# Altium footprint library CopperComponents.PcbLib: 25 footprints (part 1 of 2)
Each footprint in its own frame and in the unit in brackets; x right, y up, seen from the top. Pads: shape width x height; smd on the part's side, far side on the other; paste and mask are expansions set on the pad; w line width, h text height; cw(c..) or ccw(c..) is an arc to the next point about the centre after c.
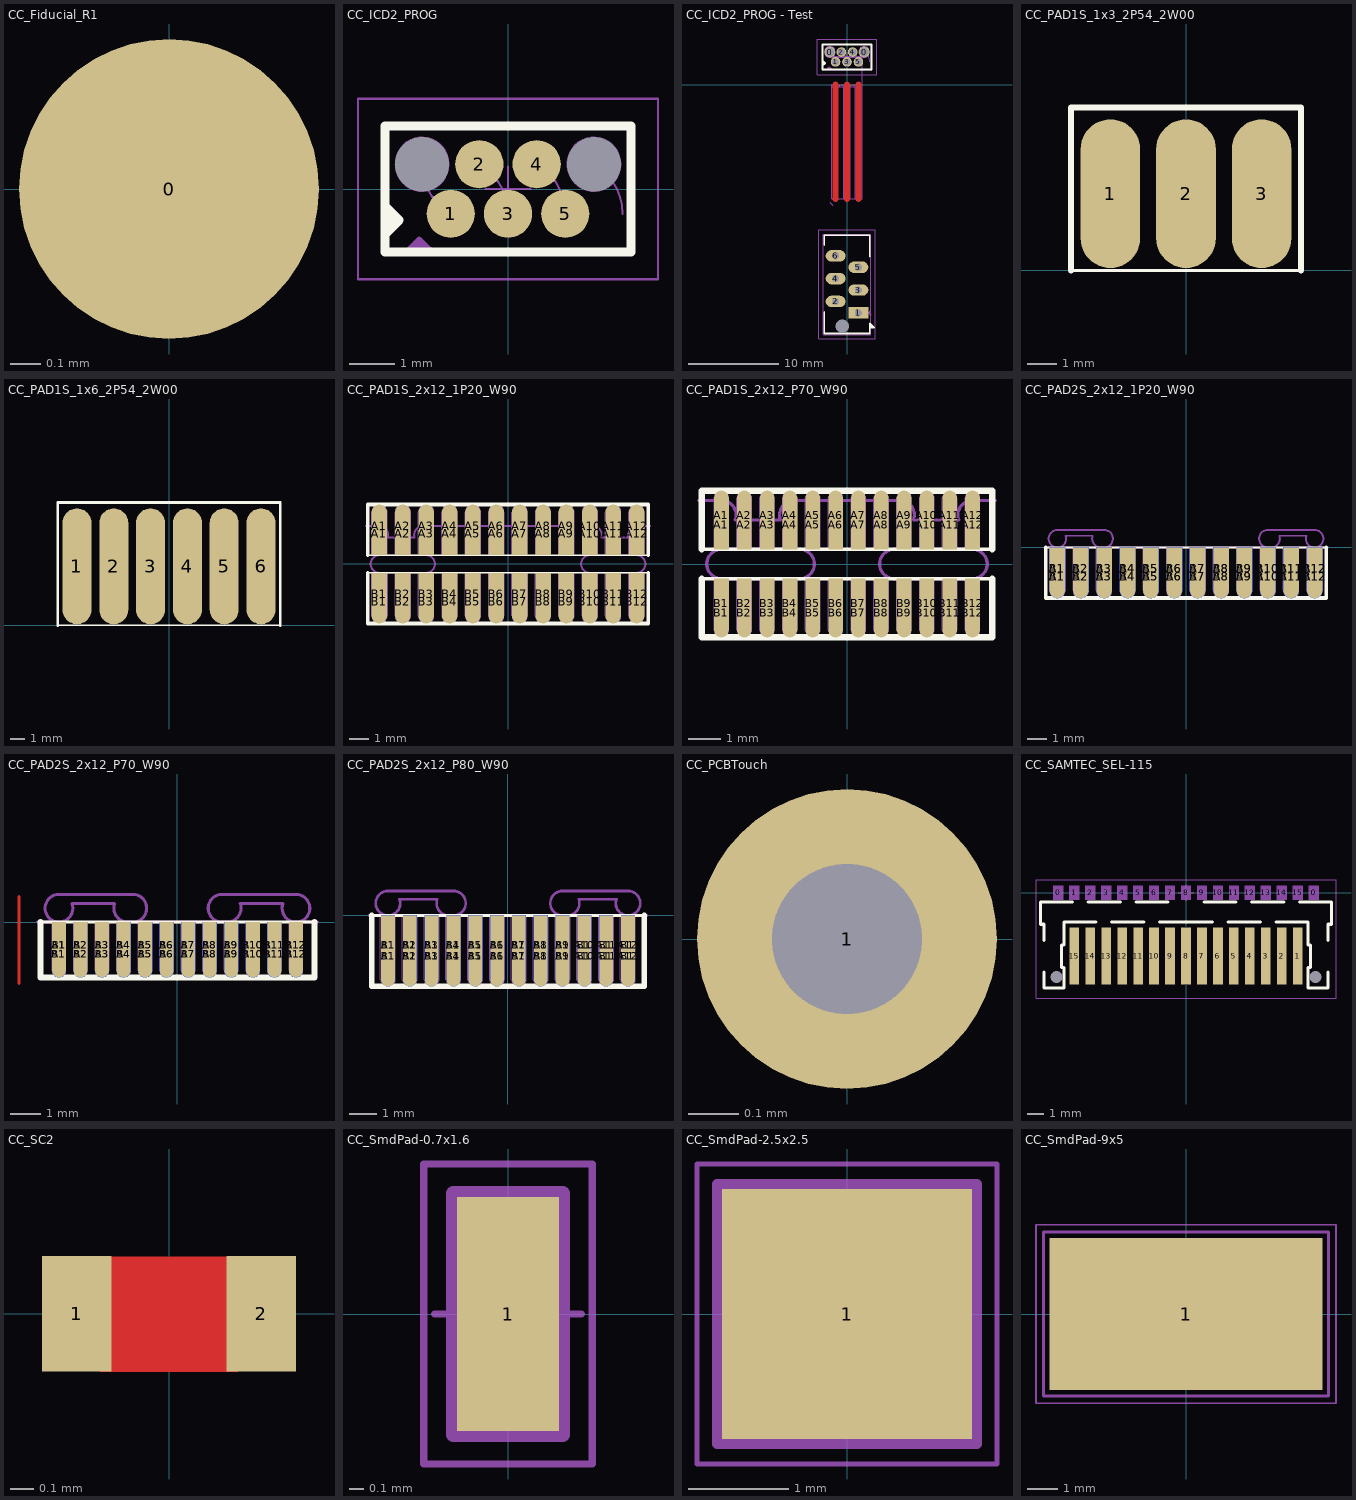
[diagram p0: the footprints below, top view; thin cyan lines are the x and y axes]

## CC_Fiducial_R1 [mm] "Fiducial Round 1mm"
pads (1):
  round 1 smd paste-1 mask+1: 0(0,0)

## CC_ICD2_PROG [mm] "ICD2 Microchip Programming Interface"
pads (7):
  round 0 hole 1.2 unplated: 0(-1.905,0.55) 0(1.905,0.55)
  round 1.07 smd: 1(-1.27,-0.55) 2(-0.635,0.55) 3(0,-0.55) 4(0.635,0.55) 5(1.27,-0.55)
Top Overlay:
  lines w0.2: -2.6,-0.755 -2.6,-0.639 ; -2.725,-1.4 2.725,-1.4 2.725,1.4 -2.725,1.4 -2.725,-1.4 ; -2.725,-1 -2.725,-0.38 -2.415,-0.69 -2.725,-1
M-CAD:
  lines w0.01: -2.505,0.55 -1.905,0.55 ; -2.496,0.446 -1.905,0.55 ; -2.496,0.654 -1.905,0.55 ; -2.469,0.345 -1.905,0.55 ; -2.469,0.755 -1.905,0.55 ; -2.425,0.25 -1.905,0.55 ; -2.425,0.85 -1.905,0.55 ; -2.365,0.164 -1.905,0.55 ; -2.365,0.936 -1.905,0.55 ; -2.291,0.09 -1.905,0.55 ; -2.291,1.01 -1.905,0.55 ; -2.205,0.03 -1.905,0.55 ; -2.205,1.07 -1.905,0.55 ; -2.11,-0.014 -1.905,0.55 ; -2.11,1.114 -1.905,0.55 ; -2.009,-0.041 -1.905,0.55 ; -2.009,1.141 -1.905,0.55 ; -1.905,-0.05 -1.905,0.55 ; -1.905,1.15 -1.905,0.55 ; -1.801,-0.041 -1.905,0.55 ; -1.801,1.141 -1.905,0.55 ; -1.7,-0.014 -1.905,0.55 ; -1.7,1.114 -1.905,0.55 ; -1.605,0.03 -1.905,0.55 ; -1.605,1.07 -1.905,0.55 ; -1.519,0.09 -1.905,0.55 ; -1.519,1.01 -1.905,0.55 ; -1.445,0.164 -1.905,0.55 ; -1.445,0.936 -1.905,0.55 ; -1.385,0.25 -1.905,0.55 ; -1.385,0.85 -1.905,0.55 ; -1.341,0.345 -1.905,0.55 ; -1.341,0.755 -1.905,0.55 ; -1.314,0.446 -1.905,0.55 ; -1.314,0.654 -1.905,0.55 ; -1.305,0.55 -1.905,0.55
  lines w0.05: -1.905,0.55 ccw(c-0.635,0.55) -1.27,-0.55 ; -0.635,0.55 cw(c-1.27,-0.55) 0,-0.55 0,0 -0.38,0 ; 0.635,0.55 cw(c0,-0.55) 1.27,-0.55 ; 1.905,0.55 cw(c1.27,-0.55) 2.54,-0.55
TopBody:
  circle w0.01: c1.905,0.55 r0.6
  circle w0.01: c-1.905,0.55 r0.6
  lines w0.1: -2.265,-1.4 -1.965,-1.1 -1.665,-1.4 ; -2.165,-1.4 -1.965,-1.2 -1.765,-1.4 ; -2.065,-1.4 -1.965,-1.3 -1.865,-1.4 ; -2.725,-1.4 -2.725,1.4 2.725,1.4 2.725,-1.4 -2.725,-1.4
  text ".Designator" at -1.2,-2.3 h0.5
TopCourtyard:
  lines w0.05: -0.5,0 0.5,0 ; 0,-0.5 0,0.5 ; -3.325,-2 -3.325,2 3.325,2 3.325,-2 -3.325,-2
3D body: height 0.5, standoff 0, extent -2.725,-1.4 2.725,1.4
3D body: height 0, standoff -2, extent 1.305,-0.05 2.505,1.15
3D body: height 0, standoff -2, extent -2.505,-0.05 -1.305,1.15

## CC_ICD2_PROG - Test [mm] "ICD2 Microchip Programming Interface"
pads (14):
  round 1.2 hole 1 unplated: 0(-1.905,3.65) 0(1.905,3.65)
  round 1.07 hole 0.8 unplated: 1(-1.27,2.55) 2(-0.635,3.65) 3(0,2.55) 4(0.635,3.65) 5(1.27,2.55)
  rect 2.21x1.27 / inner rect 1.27x1.27 / far side rect 1.27x1.27 hole 0.8: 1(1.27,-25.4)
  oval 2.21x1.27 / inner round 1.27 / far side round 1.27 hole 0.8: 2(-1.27,-24.13) 3(1.27,-22.86) 4(-1.27,-21.59) 5(1.27,-20.32) 6(-1.27,-19.05)
  round 0 hole 1.5 unplated mask+0.8: ""(-0.533,-26.899)
Top Layer:
  lines w0.7: -1.27,-12.7 -1.27,0 ; 0,-12.7 0,0 ; 1.27,-12.7 1.27,0
Top Overlay:
  lines w0.2: -2.6,2.345 -2.6,2.461 ; -2.54,-25.305 -2.54,-27.7 2.54,-27.7 2.54,-26.575 3.025,-27.06 2.544,-27.06 2.54,-27.064 ; -2.54,-17.875 -2.54,-16.75 2.54,-16.75 2.54,-19.145 ; 2.54,-27.061 2.54,-26.775 ; 2.54,-26.803 2.797,-27.06 2.825,-27.06 ; -2.725,1.7 -2.725,4.5 2.725,4.5 2.725,1.7 -2.725,1.7 ; -2.725,2.1 -2.415,2.41 -2.725,2.72 -2.725,2.1
M-CAD:
  lines w0.01: -2.505,3.65 -1.905,3.65 ; -2.496,3.546 -1.905,3.65 ; -2.496,3.754 -1.905,3.65 ; -2.469,3.445 -1.905,3.65 ; -2.469,3.855 -1.905,3.65 ; -2.425,3.35 -1.905,3.65 ; -2.425,3.95 -1.905,3.65 ; -2.365,3.264 -1.905,3.65 ; -2.365,4.036 -1.905,3.65 ; -2.291,3.19 -1.905,3.65 ; -2.291,4.11 -1.905,3.65 ; -2.205,3.13 -1.905,3.65 ; -2.205,4.17 -1.905,3.65 ; -2.11,3.086 -1.905,3.65 ; -2.11,4.214 -1.905,3.65 ; -2.009,3.059 -1.905,3.65 ; -2.009,4.241 -1.905,3.65 ; -1.905,3.05 -1.905,3.65 ; -1.905,4.25 -1.905,3.65 ; -1.801,3.059 -1.905,3.65 ; -1.801,4.241 -1.905,3.65 ; -1.7,3.086 -1.905,3.65 ; -1.7,4.214 -1.905,3.65 ; -1.605,3.13 -1.905,3.65 ; -1.605,4.17 -1.905,3.65 ; -1.519,3.19 -1.905,3.65 ; -1.519,4.11 -1.905,3.65 ; -1.445,3.264 -1.905,3.65 ; -1.445,4.036 -1.905,3.65 ; -1.385,3.35 -1.905,3.65 ; -1.385,3.95 -1.905,3.65 ; -1.341,3.445 -1.905,3.65 ; -1.341,3.855 -1.905,3.65 ; -1.314,3.546 -1.905,3.65 ; -1.314,3.754 -1.905,3.65 ; -1.305,3.65 -1.905,3.65
  lines w0.05: -1.905,3.65 ccw(c-0.635,3.65) -1.27,2.55 ; -1.7,0 1.7,0 ; -0.635,3.65 cw(c-1.27,2.55) 0,2.55 0,3.1 -0.38,3.1 ; 0.635,3.65 cw(c0,2.55) 1.27,2.55 ; 1.7,-12.7 1.7,3.1 ; 1.905,3.65 cw(c1.27,2.55) 2.54,2.55
  lines w0.1: -1.9,-13.1 -1.6,-13.4 ; -1.715,-0.2 -1.715,0 ; -0.825,-0.2 -0.825,0 ; -0.445,0 -0.445,-0.2 -0.345,-0.2 -0.345,-12.7 ; 0.345,-12.7 0.345,-0.2 0.445,-0.2 0.445,0 ; 0.825,-0.2 0.825,0 1.715,0 1.715,-0.2 ; 0.925,-12.7 0.925,-0.2 ; 1.615,-12.7 1.615,-0.2 ; 1.7,-12.7 -1.7,-12.7 -1.7,-0.2 1.7,-0.2
  lines w0.2: -1.7,3.1 1.7,3.1
TopBody:
  circle w0.01: c-1.905,3.65 r0.6
  circle w0.01: c1.905,3.65 r0.6
  lines w0.1: -2.265,1.7 -1.965,2 -1.665,1.7 ; -2.165,1.7 -1.965,1.9 -1.765,1.7 ; -2.065,1.7 -1.965,1.8 -1.865,1.7 ; 2.667,-25.7 2.367,-25.4 2.667,-25.1 ; 2.667,-25.6 2.467,-25.4 2.667,-25.2 ; 2.667,-25.5 2.567,-25.4 2.667,-25.3 ; -2.725,1.7 2.725,1.7 2.725,4.5 -2.725,4.5 -2.725,1.7 ; -2.667,-27.813 2.667,-27.813 2.667,-16.637 -2.667,-16.637 -2.667,-27.813
  text ".Designator" at 8.6,-18.6 h0.5
TopCourtyard:
  lines w0.05: -0.5,3.1 0.5,3.1 ; 0,2.6 0,3.6 ; 0.77,-25.4 1.77,-25.4 ; 1.27,-25.9 1.27,-24.9 ; -3.325,1.1 3.325,1.1 3.325,5.1 -3.325,5.1 -3.325,1.1 ; -3.167,-28.313 -3.167,-16.137 3.167,-16.137 3.167,-28.313 -3.167,-28.313
3D body: height 7.2, standoff 0, extent -2.667,-27.813 2.667,-16.637
3D body: height 0, standoff -2, extent -2.505,3.05 -1.305,4.25
3D body: height 0, standoff -2, extent 1.305,3.05 2.505,4.25
3D body: height 0.5, standoff 0, extent -2.725,1.7 2.725,4.5

## CC_PAD1S_1x3_2P54_2W00 [mm]
height 0.5
pads (3):
  oval 2x5 smd: 1(-2.55,2.58) 2(-0.01,2.58) 3(2.53,2.58)
Top Overlay:
  lines w0.1: -3.875,0 3.855,0
  lines w0.2: -3.875,0 -3.875,5.475 3.855,5.475 3.855,0
3D body: height 0.5, standoff 0, extent 1.531,0.091 3.549,5.109
3D body: height 0.5, standoff 0, extent -3.549,0.091 -1.531,5.109
3D body: height 0.5, standoff 0, extent -1.009,0.091 1.009,5.109

## CC_PAD1S_1x6_2P54_2W00 [mm]
height 0.5
pads (6):
  oval 2x8 smd: 1(-6.35,4.08) 2(-3.81,4.08) 3(-1.27,4.08) 4(1.27,4.08) 5(3.81,4.08) 6(6.35,4.08)
Top Overlay:
  lines w0.1: -7.675,0 7.675,0
  lines w0.2: -7.675,0 -7.675,8.475 7.675,8.475 7.675,0

## CC_PAD1S_2x12_1P20_W90 [mm]
height 0.5
pads (48):
  rect 0.8x2.2 smd paste-5: A1(-6.6,1.55) A2(-5.4,1.55) A3(-4.2,1.55) A4(-3,1.55) A5(-1.8,1.55) A6(-0.6,1.55) A7(0.6,1.55) A8(1.8,1.55) A9(3,1.55) A10(4.2,1.55) A11(5.4,1.55) A12(6.6,1.55) B1(-6.6,-1.55) B2(-5.4,-1.55) B3(-4.2,-1.55) B4(-3,-1.55) B5(-1.8,-1.55) B6(-0.6,-1.55) B7(0.6,-1.55) B8(1.8,-1.55) B9(3,-1.55) B10(4.2,-1.55) B11(5.4,-1.55) B12(6.6,-1.55)
  oval 0.8x2.2 smd paste-5: A1(-6.6,1.95) A2(-5.4,1.95) A3(-4.2,1.95) A4(-3,1.95) A5(-1.8,1.95) A6(-0.6,1.95) A7(0.6,1.95) A8(1.8,1.95) A9(3,1.95) A10(4.2,1.95) A11(5.4,1.95) A12(6.6,1.95) B1(-6.6,-1.95) B2(-5.4,-1.95) B3(-4.2,-1.95) B4(-3,-1.95) B5(-1.8,-1.95) B6(-0.6,-1.95) B7(0.6,-1.95) B8(1.8,-1.95) B9(3,-1.95) B10(4.2,-1.95) B11(5.4,-1.95) B12(6.6,-1.95)
Top Overlay:
  lines w0.1: -7.2,-0.45 7.2,-0.45 ; -7.2,0.45 7.2,0.45
  lines w0.2: -7.2,-3.05 7.2,-3.05 ; -7.2,-3.009 -7.2,-0.45 ; -7.2,0.45 -7.2,3.009 ; -7.2,3.05 7.2,3.05 ; 7.2,-3.009 7.2,-0.45 ; 7.2,0.45 7.2,3.009
M-CAD:
  lines w0.1: -7.3,1.95 -6.6,1.95 cw(c-6.6,1.5) -6.176,1.35 -4.791,1.35 cw(c-4.367,1.5) -4.367,1.95 3.167,1.95 ; 4.367,1.95 cw(c4.367,1.5) 4.791,1.35 6.176,1.35 cw(c6.6,1.5) 6.6,1.95 ; 6.15,1.45 6.15,1.5 cw(c6.6,1.5) 6.6,1.95 ; 6.6,1.95 7.3,1.95 6.6,1.95 ; -6.6,-0.45 cw(c-6.6,0) -6.6,0.45 -4.2,0.45 cw(c-4.2,0) -4.2,-0.45 -6.6,-0.45 ; 4.2,-0.45 cw(c4.2,0) 4.2,0.45 6.6,0.45 cw(c6.6,0) 6.6,-0.45 4.2,-0.45
TopBody:
  lines w0.01: -7,-2.65 ccw(c-6.6,-2.65) -6.2,-2.65 -6.2,-0.45 -7,-0.45 ; -7,-2.65 -7,-0.45 ; -7,-2.65 -7,-0.45 ; -7,0.45 -7,2.65 ; -7,0.45 -6.2,0.45 -6.2,2.65 ccw(c-6.6,2.65) -7,2.65 ; -7,0.45 -7,2.65 ; -5.8,-2.65 ccw(c-5.4,-2.65) -5,-2.65 -5,-0.45 -5.8,-0.45 -5.8,-2.65 ; -5.8,0.45 -5,0.45 -5,2.65 ccw(c-5.4,2.65) -5.8,2.65 -5.8,0.45 ; -4.6,-2.65 ccw(c-4.2,-2.65) -3.8,-2.65 -3.8,-0.45 -4.6,-0.45 -4.6,-2.65 ; -4.6,0.45 -3.8,0.45 -3.8,2.65 ccw(c-4.2,2.65) -4.6,2.65 -4.6,0.45 ; -3.4,-2.65 ccw(c-3,-2.65) -2.6,-2.65 -2.6,-0.45 -3.4,-0.45 -3.4,-2.65 ; -3.4,0.45 -2.6,0.45 -2.6,2.65 ccw(c-3,2.65) -3.4,2.65 -3.4,0.45 ; -2.2,-2.65 ccw(c-1.8,-2.65) -1.4,-2.65 -1.4,-0.45 -2.2,-0.45 -2.2,-2.65 ; -2.2,0.45 -1.4,0.45 -1.4,2.65 ccw(c-1.8,2.65) -2.2,2.65 -2.2,0.45 ; -1,-2.65 ccw(c-0.6,-2.65) -0.2,-2.65 -0.2,-0.45 -1,-0.45 -1,-2.65 ; -1,0.45 -0.2,0.45 -0.2,2.65 ccw(c-0.6,2.65) -1,2.65 -1,0.45 ; 0.2,-2.65 ccw(c0.6,-2.65) 1,-2.65 1,-0.45 0.2,-0.45 0.2,-2.65 ; 0.2,0.45 1,0.45 1,2.65 ccw(c0.6,2.65) 0.2,2.65 0.2,0.45 ; 1.4,-2.65 ccw(c1.8,-2.65) 2.2,-2.65 2.2,-0.45 1.4,-0.45 1.4,-2.65 ; 1.4,0.45 2.2,0.45 2.2,2.65 ccw(c1.8,2.65) 1.4,2.65 1.4,0.45 ; 2.6,-2.65 ccw(c3,-2.65) 3.4,-2.65 3.4,-0.45 2.6,-0.45 2.6,-2.65 ; 2.6,0.45 2.6,2.65 cw(c3,2.65) 3.4,2.65 3.4,0.45 2.6,0.45 ; 3.8,-2.65 ccw(c4.2,-2.65) 4.6,-2.65 4.6,-0.45 3.8,-0.45 3.8,-2.65 ; 3.8,0.45 3.8,2.65 cw(c4.2,2.65) 4.6,2.65 4.6,0.45 3.8,0.45 ; 5,-2.65 ccw(c5.4,-2.65) 5.8,-2.65 5.8,-0.45 5,-0.45 5,-2.65 ; 5,0.45 5.8,0.45 5.8,2.65 ccw(c5.4,2.65) 5,2.65 5,0.45 ; 6.2,-2.65 ccw(c6.6,-2.65) 7,-2.65 7,-0.45 6.2,-0.45 6.2,-2.65 ; 6.2,0.45 6.2,2.65 cw(c6.6,2.65) 7,2.65 7,0.45 6.2,0.45
3D body: height 0.5, standoff 0, extent -5.808,0.449 -4.992,3.058
3D body: height 0.5, standoff 0, extent -7.008,0.449 -6.192,3.058
3D body: height 0.5, standoff 0, extent -4.607,0.451 -3.793,3.057
3D body: height 0.5, standoff 0, extent -3.408,0.449 -2.592,3.058
3D body: height 0.5, standoff 0, extent -2.208,0.449 -1.392,3.058
3D body: height 0.5, standoff 0, extent -1.008,0.449 -0.192,3.058
3D body: height 0.5, standoff 0, extent 0.193,0.451 1.007,3.057
3D body: height 0.5, standoff 0, extent 1.392,0.449 2.208,3.058
3D body: height 0.5, standoff 0, extent 2.593,0.451 3.407,3.057
3D body: height 0.5, standoff 0, extent 2.593,-3.057 3.407,-0.451
3D body: height 0.5, standoff 0, extent 1.392,-3.058 2.208,-0.449
3D body: height 0.5, standoff 0, extent 0.193,-3.057 1.007,-0.451
3D body: height 0.5, standoff 0, extent -1.008,-3.058 -0.192,-0.449
3D body: height 0.5, standoff 0, extent -2.208,-3.058 -1.392,-0.449
3D body: height 0.5, standoff 0, extent -3.408,-3.058 -2.592,-0.449
3D body: height 0.5, standoff 0, extent -4.607,-3.057 -3.793,-0.451
3D body: height 0.5, standoff 0, extent -7.008,-3.058 -6.192,-0.449
3D body: height 0.5, standoff 0, extent -5.808,-3.058 -4.992,-0.449
3D body: height 0.5, standoff 0, extent 3.792,-3.058 4.608,-0.449
3D body: height 0.5, standoff 0, extent 4.993,-3.057 5.807,-0.451
3D body: height 0.5, standoff 0, extent 4.993,0.451 5.807,3.057
3D body: height 0.5, standoff 0, extent 3.792,0.449 4.608,3.058
3D body: height 0.5, standoff 0, extent 6.193,0.451 7.007,3.057
3D body: height 0.5, standoff 0, extent 6.193,-3.057 7.007,-0.451

## CC_PAD1S_2x12_P70_W90 [mm]
height 0.5
pads (48):
  rect 0.45x1.5 smd paste-5: A1(-3.85,1.2) A2(-3.15,1.2) A3(-2.45,1.2) A4(-1.75,1.2) A5(-1.05,1.2) A6(-0.35,1.2) A7(0.35,1.2) A8(1.05,1.2) A9(1.75,1.2) A10(2.45,1.2) A11(3.15,1.2) A12(3.85,1.2) B1(-3.85,-1.2) B2(-3.15,-1.2) B3(-2.45,-1.2) B4(-1.75,-1.2) B5(-1.05,-1.2) B6(-0.35,-1.2) B7(0.35,-1.2) B8(1.05,-1.2) B9(1.75,-1.2) B10(2.45,-1.2) B11(3.15,-1.2) B12(3.85,-1.2)
  oval 0.45x1.5 smd paste-5: A1(-3.85,1.5) A2(-3.15,1.5) A3(-2.45,1.5) A4(-1.75,1.5) A5(-1.05,1.5) A6(-0.35,1.5) A7(0.35,1.5) A8(1.05,1.5) A9(1.75,1.5) A10(2.45,1.5) A11(3.15,1.5) A12(3.85,1.5) B1(-3.85,-1.5) B2(-3.15,-1.5) B3(-2.45,-1.5) B4(-1.75,-1.5) B5(-1.05,-1.5) B6(-0.35,-1.5) B7(0.35,-1.5) B8(1.05,-1.5) B9(1.75,-1.5) B10(2.45,-1.5) B11(3.15,-1.5) B12(3.85,-1.5)
Top Overlay:
  lines w0.1: -4.45,-0.45 4.45,-0.45 ; -4.45,0.45 4.45,0.45
  lines w0.2: -4.45,-0.45 -4.45,-2.25 4.45,-2.25 4.45,-0.45 ; -4.45,0.45 -4.45,2.25 4.45,2.25 4.45,0.45
M-CAD:
  lines w0.1: -4.55,1.95 -3.85,1.95 cw(c-3.85,1.5) -3.426,1.35 -2.041,1.35 cw(c-1.617,1.5) -1.617,1.95 1.617,1.95 cw(c1.617,1.5) 2.041,1.35 3.426,1.35 cw(c3.85,1.5) 3.85,1.95 4.55,1.95 ; -3.85,-0.45 cw(c-3.85,0) -3.85,0.45 -1.45,0.45 cw(c-1.45,0) -1.45,-0.45 -3.85,-0.45 ; 1.45,-0.45 cw(c1.45,0) 1.45,0.45 3.85,0.45 cw(c3.85,0) 3.85,-0.45 1.45,-0.45
TopBody:
  lines w0.01: -4.075,-2.025 ccw(c-3.85,-2.025) -3.85,-2.25 ccw(c-3.85,-2.025) -3.625,-2.025 -3.625,-0.45 -4.075,-0.45 -4.075,-2.025 ; -4.075,0.45 -4.075,2.025 cw(c-3.85,2.025) -3.85,2.25 cw(c-3.85,2.025) -3.625,2.025 -3.625,0.45 -4.075,0.45 ; -3.375,-2.025 ccw(c-3.15,-2.025) -3.15,-2.25 ccw(c-3.15,-2.025) -2.925,-2.025 -2.925,-0.45 -3.375,-0.45 -3.375,-2.025 ; -3.375,0.45 -3.375,2.025 cw(c-3.15,2.025) -3.15,2.25 cw(c-3.15,2.025) -2.925,2.025 -2.925,0.45 -3.375,0.45 ; -2.675,-2.025 ccw(c-2.45,-2.025) -2.45,-2.25 ccw(c-2.45,-2.025) -2.225,-2.025 -2.225,-0.45 -2.675,-0.45 -2.675,-2.025 ; -2.675,0.45 -2.675,2.025 cw(c-2.45,2.025) -2.45,2.25 cw(c-2.45,2.025) -2.225,2.025 -2.225,0.45 -2.675,0.45 ; -1.975,-2.025 ccw(c-1.75,-2.025) -1.75,-2.25 ccw(c-1.75,-2.025) -1.525,-2.025 -1.525,-0.45 -1.975,-0.45 -1.975,-2.025 ; -1.975,0.45 -1.975,2.025 cw(c-1.75,2.025) -1.75,2.25 cw(c-1.75,2.025) -1.525,2.025 -1.525,0.45 -1.975,0.45 ; -1.275,-2.025 ccw(c-1.05,-2.025) -1.05,-2.25 ccw(c-1.05,-2.025) -0.825,-2.025 -0.825,-0.45 -1.275,-0.45 -1.275,-2.025 ; -1.275,0.45 -1.275,2.025 cw(c-1.05,2.025) -1.05,2.25 cw(c-1.05,2.025) -0.825,2.025 -0.825,0.45 -1.275,0.45 ; -0.575,-2.025 ccw(c-0.35,-2.025) -0.35,-2.25 ccw(c-0.35,-2.025) -0.125,-2.025 -0.125,-0.45 -0.575,-0.45 -0.575,-2.025 ; -0.575,0.45 -0.575,2.025 cw(c-0.35,2.025) -0.35,2.25 cw(c-0.35,2.025) -0.125,2.025 -0.125,0.45 -0.575,0.45 ; 0.125,-2.025 ccw(c0.35,-2.025) 0.35,-2.25 ccw(c0.35,-2.025) 0.575,-2.025 0.575,-0.45 0.125,-0.45 0.125,-2.025 ; 0.125,0.45 0.125,2.025 cw(c0.35,2.025) 0.35,2.25 cw(c0.35,2.025) 0.575,2.025 0.575,0.45 0.125,0.45 ; 0.825,-2.025 ccw(c1.05,-2.025) 1.05,-2.25 ccw(c1.05,-2.025) 1.275,-2.025 1.275,-0.45 0.825,-0.45 0.825,-2.025 ; 0.825,0.45 0.825,2.025 cw(c1.05,2.025) 1.05,2.25 cw(c1.05,2.025) 1.275,2.025 1.275,0.45 0.825,0.45 ; 1.525,-2.025 ccw(c1.75,-2.025) 1.75,-2.25 ccw(c1.75,-2.025) 1.975,-2.025 1.975,-0.45 1.525,-0.45 1.525,-2.025 ; 1.525,0.45 1.975,0.45 1.975,2.025 ccw(c1.75,2.025) 1.75,2.25 ccw(c1.75,2.025) 1.525,2.025 1.525,0.45 ; 2.225,-2.025 ccw(c2.45,-2.025) 2.45,-2.25 ccw(c2.45,-2.025) 2.675,-2.025 2.675,-0.45 2.225,-0.45 2.225,-2.025 ; 2.225,0.45 2.675,0.45 2.675,2.025 ccw(c2.45,2.025) 2.45,2.25 ccw(c2.45,2.025) 2.225,2.025 2.225,0.45 ; 2.925,-2.025 ccw(c3.15,-2.025) 3.15,-2.25 ccw(c3.15,-2.025) 3.375,-2.025 3.375,-0.45 2.925,-0.45 2.925,-2.025 ; 2.925,0.45 3.375,0.45 3.375,2.025 ccw(c3.15,2.025) 3.15,2.25 ccw(c3.15,2.025) 2.925,2.025 2.925,0.45 ; 3.625,-2.025 ccw(c3.85,-2.025) 3.85,-2.25 ccw(c3.85,-2.025) 4.075,-2.025 4.075,-0.45 3.625,-0.45 3.625,-2.025 ; 3.625,0.45 4.075,0.45 4.075,2.025 ccw(c3.85,2.025) 3.85,2.25 ccw(c3.85,2.025) 3.625,2.025 3.625,0.45
3D body: height 0.5, standoff 0, extent 3.62,0.449 4.08,2.255
3D body: height 0.5, standoff 0, extent 2.92,0.449 3.38,2.255
3D body: height 0.5, standoff 0, extent 2.22,0.449 2.68,2.255
3D body: height 0.5, standoff 0, extent 1.52,0.449 1.98,2.255
3D body: height 0.5, standoff 0, extent 0.82,0.449 1.28,2.255
3D body: height 0.5, standoff 0, extent 0.12,0.449 0.58,2.255
3D body: height 0.5, standoff 0, extent 3.62,-2.255 4.08,-0.449
3D body: height 0.5, standoff 0, extent 2.921,-2.254 3.379,-0.451
3D body: height 0.5, standoff 0, extent 2.22,-2.255 2.68,-0.449
3D body: height 0.5, standoff 0, extent 1.52,-2.255 1.98,-0.449
3D body: height 0.5, standoff 0, extent 0.82,-2.255 1.28,-0.449
3D body: height 0.5, standoff 0, extent 0.12,-2.255 0.58,-0.449
3D body: height 0.5, standoff 0, extent -0.58,0.449 -0.12,2.255
3D body: height 0.5, standoff 0, extent -1.28,0.449 -0.82,2.255
3D body: height 0.5, standoff 0, extent -1.98,0.449 -1.52,2.255
3D body: height 0.5, standoff 0, extent -2.68,0.449 -2.22,2.255
3D body: height 0.5, standoff 0, extent -3.38,0.449 -2.92,2.255
3D body: height 0.5, standoff 0, extent -4.08,0.449 -3.62,2.255
3D body: height 0.5, standoff 0, extent -0.58,-2.255 -0.12,-0.449
3D body: height 0.5, standoff 0, extent -1.279,-2.254 -0.821,-0.451
3D body: height 0.5, standoff 0, extent -1.98,-2.255 -1.52,-0.449
3D body: height 0.5, standoff 0, extent -2.68,-2.255 -2.22,-0.449
3D body: height 0.5, standoff 0, extent -3.38,-2.255 -2.92,-0.449
3D body: height 0.5, standoff 0, extent -4.08,-2.255 -3.62,-0.449

## CC_PAD2S_2x12_1P20_W90 [mm]
height 0.5
pads (48):
  oval 0.8x2.2 smd paste-5: A1(-6.6,-1.5) A2(-5.4,-1.5) A3(-4.2,-1.5) A4(-3,-1.5) A5(-1.8,-1.5) A6(-0.6,-1.5) A7(0.6,-1.5) A8(1.8,-1.5) A9(3,-1.5) A10(4.2,-1.5) A11(5.4,-1.5) A12(6.6,-1.5)
  rect 0.8x2.2 smd paste-5: A1(-6.6,-1.1) A2(-5.4,-1.1) A3(-4.2,-1.1) A4(-3,-1.1) A5(-1.8,-1.1) A6(-0.6,-1.1) A7(0.6,-1.1) A8(1.8,-1.1) A9(3,-1.1) A10(4.2,-1.1) A11(5.4,-1.1) A12(6.6,-1.1)
  oval 0.8x2.2 smd far side paste-5: B1(-6.6,-1.5) B2(-5.4,-1.5) B3(-4.2,-1.5) B4(-3,-1.5) B5(-1.8,-1.5) B6(-0.6,-1.5) B7(0.6,-1.5) B8(1.8,-1.5) B9(3,-1.5) B10(4.2,-1.5) B11(5.4,-1.5) B12(6.6,-1.5)
  rect 0.8x2.2 smd far side paste-5: B1(-6.6,-1.1) B2(-5.4,-1.1) B3(-4.2,-1.1) B4(-3,-1.1) B5(-1.8,-1.1) B6(-0.6,-1.1) B7(0.6,-1.1) B8(1.8,-1.1) B9(3,-1.1) B10(4.2,-1.1) B11(5.4,-1.1) B12(6.6,-1.1)
Top Overlay:
  lines w0.1: -7.2,0 7.2,0
  lines w0.2: -7.2,-2.6 7.2,-2.6 ; -7.2,-2.559 -7.2,0 ; 7.2,-2.559 7.2,0
Bottom Overlay:
  lines w0.1: -7.2,0 7.2,0
  lines w0.2: -7.2,-2.6 7.2,-2.6 ; -7.2,-2.559 -7.2,0 ; 7.2,-2.559 7.2,0
M-CAD:
  lines w0.1: -7.3,0 -6.6,0 ; 6.15,0.5 6.15,0.45 ccw(c6.6,0.45) 6.6,0 ; -6.6,0 cw(c-6.6,0.45) -6.6,0.9 -4.2,0.9 cw(c-4.2,0.45) -4.2,0 -6.6,0 ; -6.6,0 ccw(c-6.6,0.45) -6.176,0.6 -4.791,0.6 ccw(c-4.367,0.45) -4.367,0 4.367,0 ccw(c4.367,0.45) 4.791,0.6 6.176,0.6 ccw(c6.6,0.45) 6.6,0 ; 6.6,0 ccw(c6.6,0.45) 6.6,0.9 4.2,0.9 ccw(c4.2,0.45) 4.2,0 6.6,0 ; 6.6,0 7.3,0 6.6,0
TopBody:
  lines w0.01: -7,-2.2 ccw(c-6.6,-2.2) -6.2,-2.2 -6.2,0 -7,0 ; -7,-2.2 -7,0 ; -7,-2.2 -7,0 ; -5.8,-2.2 ccw(c-5.4,-2.2) -5,-2.2 -5,0 -5.8,0 -5.8,-2.2 ; -4.6,-2.2 ccw(c-4.2,-2.2) -3.8,-2.2 -3.8,0 -4.6,0 -4.6,-2.2 ; -3.4,-2.2 ccw(c-3,-2.2) -2.6,-2.2 -2.6,0 -3.4,0 -3.4,-2.2 ; -2.2,-2.2 ccw(c-1.8,-2.2) -1.4,-2.2 -1.4,0 -2.2,0 -2.2,-2.2 ; -1,-2.2 ccw(c-0.6,-2.2) -0.2,-2.2 -0.2,0 -1,0 -1,-2.2 ; 0.2,-2.2 ccw(c0.6,-2.2) 1,-2.2 1,0 0.2,0 0.2,-2.2 ; 1.4,-2.2 ccw(c1.8,-2.2) 2.2,-2.2 2.2,0 1.4,0 1.4,-2.2 ; 2.6,-2.2 ccw(c3,-2.2) 3.4,-2.2 3.4,0 2.6,0 2.6,-2.2 ; 3.8,-2.2 ccw(c4.2,-2.2) 4.6,-2.2 4.6,0 3.8,0 3.8,-2.2 ; 5,-2.2 ccw(c5.4,-2.2) 5.8,-2.2 5.8,0 5,0 5,-2.2 ; 6.2,-2.2 ccw(c6.6,-2.2) 7,-2.2 7,0 6.2,0 6.2,-2.2
BotBody:
  lines w0.01: -7,-2.2 ccw(c-6.6,-2.2) -6.2,-2.2 -6.2,0 -7,0 ; -7,-2.2 -7,0 ; -7,-2.2 -7,0 ; -5.8,-2.2 ccw(c-5.4,-2.2) -5,-2.2 -5,0 -5.8,0 -5.8,-2.2 ; -4.6,-2.2 ccw(c-4.2,-2.2) -3.8,-2.2 -3.8,0 -4.6,0 -4.6,-2.2 ; -3.4,-2.2 ccw(c-3,-2.2) -2.6,-2.2 -2.6,0 -3.4,0 -3.4,-2.2 ; -2.2,-2.2 ccw(c-1.8,-2.2) -1.4,-2.2 -1.4,0 -2.2,0 -2.2,-2.2 ; -1,-2.2 ccw(c-0.6,-2.2) -0.2,-2.2 -0.2,0 -1,0 -1,-2.2 ; 0.2,-2.2 ccw(c0.6,-2.2) 1,-2.2 1,0 0.2,0 0.2,-2.2 ; 1.4,-2.2 ccw(c1.8,-2.2) 2.2,-2.2 2.2,0 1.4,0 1.4,-2.2 ; 2.6,-2.2 ccw(c3,-2.2) 3.4,-2.2 3.4,0 2.6,0 2.6,-2.2 ; 3.8,-2.2 ccw(c4.2,-2.2) 4.6,-2.2 4.6,0 3.8,0 3.8,-2.2 ; 5,-2.2 ccw(c5.4,-2.2) 5.8,-2.2 5.8,0 5,0 5,-2.2 ; 6.2,-2.2 ccw(c6.6,-2.2) 7,-2.2 7,0 6.2,0 6.2,-2.2
3D body: height 0.5, standoff 0, extent 6.193,-2.607 7.007,-0.001
3D body: height 0.5, standoff 0, extent 4.993,-2.607 5.807,-0.001
3D body: height 0.5, standoff 0, extent 3.792,-2.608 4.608,0.001
3D body: height 0.5, standoff 0, extent -5.808,-2.608 -4.992,0.001
3D body: height 0.5, standoff 0, extent -7.008,-2.608 -6.192,0.001
3D body: height 0.5, standoff 0, extent -4.607,-2.607 -3.793,-0.001
3D body: height 0.5, standoff 0, extent -3.408,-2.608 -2.592,0.001
3D body: height 0.5, standoff 0, extent -2.208,-2.608 -1.392,0.001
3D body: height 0.5, standoff 0, extent -1.008,-2.608 -0.192,0.001
3D body: height 0.5, standoff 0, extent 0.193,-2.607 1.007,-0.001
3D body: height 0.5, standoff 0, extent 1.392,-2.608 2.208,0.001
3D body: height 0.5, standoff 0, extent 2.593,-2.607 3.407,-0.001
3D body: height 0.5, standoff 0, extent 6.193,-2.607 7.007,-0.001
3D body: height 0.5, standoff 0, extent 3.792,-2.608 4.608,0.001
3D body: height 0.5, standoff 0, extent 4.993,-2.607 5.807,-0.001
3D body: height 0.5, standoff 0, extent 2.593,-2.607 3.407,-0.001
3D body: height 0.5, standoff 0, extent 1.392,-2.608 2.208,0.001
3D body: height 0.5, standoff 0, extent 0.193,-2.607 1.007,-0.001
3D body: height 0.5, standoff 0, extent -1.008,-2.608 -0.192,0.001
3D body: height 0.5, standoff 0, extent -2.208,-2.608 -1.392,0.001
3D body: height 0.5, standoff 0, extent -3.408,-2.608 -2.592,0.001
3D body: height 0.5, standoff 0, extent -4.607,-2.607 -3.793,-0.001
3D body: height 0.5, standoff 0, extent -7.008,-2.608 -6.192,0.001
3D body: height 0.5, standoff 0, extent -5.808,-2.608 -4.992,0.001

## CC_PAD2S_2x12_P70_W90 [mm]
height 0.5
pads (48):
  oval 0.45x1.5 smd paste-5: A1(-3.85,-1.05) A2(-3.15,-1.05) A3(-2.45,-1.05) A4(-1.75,-1.05) A5(-1.05,-1.05) A6(-0.35,-1.05) A7(0.35,-1.05) A8(1.05,-1.05) A9(1.75,-1.05) A10(2.45,-1.05) A11(3.15,-1.05) A12(3.85,-1.05)
  rect 0.45x1.5 smd paste-5: A1(-3.85,-0.75) A2(-3.15,-0.75) A3(-2.45,-0.75) A4(-1.75,-0.75) A5(-1.05,-0.75) A6(-0.35,-0.75) A7(0.35,-0.75) A8(1.05,-0.75) A9(1.75,-0.75) A10(2.45,-0.75) A11(3.15,-0.75) A12(3.85,-0.75)
  oval 0.45x1.5 smd far side paste-5: B1(-3.85,-1.05) B2(-3.15,-1.05) B3(-2.45,-1.05) B4(-1.75,-1.05) B5(-1.05,-1.05) B6(-0.35,-1.05) B7(0.35,-1.05) B8(1.05,-1.05) B9(1.75,-1.05) B10(2.45,-1.05) B11(3.15,-1.05) B12(3.85,-1.05)
  rect 0.45x1.5 smd far side paste-5: B1(-3.85,-0.75) B2(-3.15,-0.75) B3(-2.45,-0.75) B4(-1.75,-0.75) B5(-1.05,-0.75) B6(-0.35,-0.75) B7(0.35,-0.75) B8(1.05,-0.75) B9(1.75,-0.75) B10(2.45,-0.75) B11(3.15,-0.75) B12(3.85,-0.75)
Top Layer:
  lines w0.1: -5.15,-2 -5.15,0.825
Top Overlay:
  lines w0.1: -4.45,0 4.45,0
  lines w0.2: -4.45,0 -4.45,-1.8 4.45,-1.8 4.45,0
Bottom Overlay:
  lines w0.1: -4.45,0 4.45,0
  lines w0.2: -4.45,0 -4.45,-1.8 4.45,-1.8 4.45,0
M-CAD:
  lines w0.1: -4.55,0 -3.85,0 ; -1.45,0 ccw(c-1.45,0.45) -1.45,0.9 -3.85,0.9 ccw(c-3.85,0.45) -3.85,0 ; 1.45,0 cw(c1.45,0.45) 1.45,0.9 3.85,0.9 cw(c3.85,0.45) 3.85,0 ; 4.55,0 3.85,0 ; -3.85,0 ccw(c-3.85,0.45) -3.426,0.6 -2.041,0.6 ccw(c-1.617,0.45) -1.617,0 1.617,0 ccw(c1.617,0.45) 2.041,0.6 3.426,0.6 ccw(c3.85,0.45) 3.85,0
TopBody:
  lines w0.01: -1.274,0 -1.274,-1.575 ccw(c-1.049,-1.575) -1.049,-1.8 ccw(c-1.049,-1.575) -0.824,-1.575 -0.824,0 ; -1.274,0.001 -0.824,0.001 ; 1.528,0.002 1.528,-1.573 ccw(c1.753,-1.573) 1.753,-1.798 ccw(c1.753,-1.573) 1.978,-1.573 1.978,0.002 ; 1.528,0.002 1.978,0.002 ; 2.228,-1.573 2.228,0.002 2.678,0.003 2.678,-1.573 cw(c2.453,-1.573) 2.453,-1.798 cw(c2.453,-1.573) 2.228,-1.573 ; -4.074,-1.576 ccw(c-3.849,-1.576) -3.849,-1.801 ccw(c-3.849,-1.576) -3.624,-1.576 -3.624,-0.001 -4.074,0 -4.074,-1.576 ; -3.374,-1.576 ccw(c-3.149,-1.576) -3.149,-1.801 ccw(c-3.149,-1.576) -2.924,-1.576 -2.924,-0.001 -3.374,0 -3.374,-1.576 ; -2.674,-1.575 ccw(c-2.449,-1.575) -2.449,-1.8 ccw(c-2.449,-1.575) -2.224,-1.575 -2.224,0 -2.674,0 -2.674,-1.575 ; -1.974,-1.575 ccw(c-1.749,-1.575) -1.749,-1.8 ccw(c-1.749,-1.575) -1.524,-1.575 -1.524,0 -1.974,0 -1.974,-1.575 ; -0.573,-1.574 ccw(c-0.348,-1.574) -0.348,-1.799 ccw(c-0.348,-1.574) -0.123,-1.574 -0.123,0.001 -0.573,0.001 -0.573,-1.574 ; 0.127,-1.574 ccw(c0.352,-1.574) 0.352,-1.799 ccw(c0.352,-1.574) 0.577,-1.574 0.577,0.001 0.127,0.002 0.127,-1.574 ; 0.828,-1.574 ccw(c1.053,-1.574) 1.053,-1.799 ccw(c1.053,-1.574) 1.278,-1.574 1.278,0.001 0.828,0.002 0.828,-1.574 ; 2.929,-1.573 ccw(c3.154,-1.573) 3.154,-1.798 ccw(c3.154,-1.573) 3.379,-1.573 3.379,0.002 2.929,0.003 2.929,-1.573 ; 3.629,-1.573 ccw(c3.854,-1.573) 3.854,-1.798 ccw(c3.854,-1.573) 4.079,-1.573 4.079,0.002 3.629,0.003 3.629,-1.573
BotBody:
  lines w0.01: -1.274,0 -1.274,-1.575 ccw(c-1.049,-1.575) -1.049,-1.8 ccw(c-1.049,-1.575) -0.824,-1.575 -0.824,0 ; -1.274,0.001 -0.824,0.001 ; 1.527,0.002 1.527,-1.573 ccw(c1.752,-1.573) 1.752,-1.798 ccw(c1.752,-1.573) 1.977,-1.573 1.977,0.002 ; 1.527,0.002 1.977,0.002 ; 2.228,-1.573 2.228,0.002 2.678,0.003 2.678,-1.573 cw(c2.453,-1.573) 2.453,-1.798 cw(c2.453,-1.573) 2.228,-1.573 ; -4.075,-1.576 ccw(c-3.85,-1.576) -3.85,-1.801 ccw(c-3.85,-1.576) -3.625,-1.576 -3.625,-0.001 -4.075,0 -4.075,-1.576 ; -3.375,-1.576 ccw(c-3.15,-1.576) -3.15,-1.801 ccw(c-3.15,-1.576) -2.925,-1.576 -2.925,-0.001 -3.375,0 -3.375,-1.576 ; -2.675,-1.575 ccw(c-2.45,-1.575) -2.45,-1.8 ccw(c-2.45,-1.575) -2.225,-1.575 -2.225,0 -2.675,0 -2.675,-1.575 ; -1.974,-1.575 ccw(c-1.749,-1.575) -1.749,-1.8 ccw(c-1.749,-1.575) -1.524,-1.575 -1.524,0 -1.974,0 -1.974,-1.575 ; -0.574,-1.574 ccw(c-0.349,-1.574) -0.349,-1.799 ccw(c-0.349,-1.574) -0.124,-1.574 -0.124,0.001 -0.574,0.001 -0.574,-1.574 ; 0.127,-1.574 ccw(c0.352,-1.574) 0.352,-1.799 ccw(c0.352,-1.574) 0.577,-1.574 0.577,0.001 0.127,0.002 0.127,-1.574 ; 0.827,-1.574 ccw(c1.052,-1.574) 1.052,-1.799 ccw(c1.052,-1.574) 1.277,-1.574 1.277,0.001 0.827,0.002 0.827,-1.574 ; 2.928,-1.573 ccw(c3.153,-1.573) 3.153,-1.798 ccw(c3.153,-1.573) 3.378,-1.573 3.378,0.002 2.928,0.003 2.928,-1.573 ; 3.629,-1.573 ccw(c3.854,-1.573) 3.854,-1.798 ccw(c3.854,-1.573) 4.079,-1.573 4.079,0.002 3.629,0.003 3.629,-1.573
3D body: height 0.5, standoff 0, extent 2.223,-1.803 2.683,0.003
3D body: height 0.5, standoff 0, extent 2.924,-1.802 3.383,0.003
3D body: height 0.5, standoff 0, extent 3.624,-1.802 4.084,0.003
3D body: height 0.5, standoff 0, extent -0.578,-1.804 -0.118,0.001
3D body: height 0.5, standoff 0, extent 0.122,-1.804 0.582,0.002
3D body: height 0.5, standoff 0, extent 1.523,-1.803 1.983,0.002
3D body: height 0.5, standoff 0, extent 0.823,-1.804 1.283,0.002
3D body: height 0.5, standoff 0, extent -1.979,-1.805 -1.519,0
3D body: height 0.5, standoff 0, extent -1.279,-1.805 -0.819,0.001
3D body: height 0.5, standoff 0, extent -2.679,-1.805 -2.219,0
3D body: height 0.5, standoff 0, extent -3.379,-1.805 -2.92,0
3D body: height 0.5, standoff 0, extent -4.079,-1.805 -3.62,0
3D body: height 0.5, standoff 0, extent -4.08,-1.805 -3.62,0
3D body: height 0.5, standoff 0, extent -3.38,-1.805 -2.92,0
3D body: height 0.5, standoff 0, extent -2.68,-1.805 -2.22,0
3D body: height 0.5, standoff 0, extent -1.279,-1.805 -0.819,0.001
3D body: height 0.5, standoff 0, extent -1.979,-1.805 -1.519,0
3D body: height 0.5, standoff 0, extent 0.822,-1.804 1.282,0.002
3D body: height 0.5, standoff 0, extent 1.522,-1.803 1.982,0.002
3D body: height 0.5, standoff 0, extent 0.122,-1.804 0.582,0.002
3D body: height 0.5, standoff 0, extent -0.579,-1.804 -0.119,0.001
3D body: height 0.5, standoff 0, extent 3.624,-1.802 4.083,0.003
3D body: height 0.5, standoff 0, extent 2.923,-1.802 3.383,0.003
3D body: height 0.5, standoff 0, extent 2.223,-1.803 2.683,0.003

## CC_PAD2S_2x12_P80_W90 [mm]
height 0.5
pads (48):
  oval 0.5x2.2 smd paste-5: A1(-4.4,-1.5) A2(-3.6,-1.5) A3(-2.8,-1.5) A4(-2,-1.5) A5(-1.2,-1.5) A6(-0.4,-1.5) A7(0.4,-1.5) A8(1.2,-1.5) A9(2,-1.5) A10(2.8,-1.5) A11(3.6,-1.5) A12(4.4,-1.5)
  rect 0.5x2.2 smd paste-5: A1(-4.4,-1.1) A2(-3.6,-1.1) A3(-2.8,-1.1) A4(-2,-1.1) A5(-1.2,-1.1) A6(-0.4,-1.1) A7(0.4,-1.1) A8(1.2,-1.1) A9(2,-1.1) A10(2.8,-1.1) A11(3.6,-1.1) A12(4.4,-1.1)
  oval 0.5x2.2 smd far side paste-5: B1(-4.4,-1.5) B1(-3.6,-1.5) B1(-2.8,-1.5) B1(-2,-1.5) B1(-1.2,-1.5) B1(-0.4,-1.5) B1(0.4,-1.5) B1(1.2,-1.5) B1(2,-1.5) B1(2.8,-1.5) B1(3.6,-1.5) B1(4.4,-1.5)
  rect 0.5x2.2 smd far side paste-5: B1(-4.4,-1.1) B1(-3.6,-1.1) B1(-2.8,-1.1) B1(-2,-1.1) B1(-1.2,-1.1) B1(-0.4,-1.1) B1(0.4,-1.1) B1(1.2,-1.1) B1(2,-1.1) B1(2.8,-1.1) B1(3.6,-1.1) B1(4.4,-1.1)
Top Overlay:
  lines w0.1: -5,0 5,0
  lines w0.2: -5,-2.6 5,-2.6 ; -5,-2.559 -5,0 ; 5,-2.559 5,0
Bottom Overlay:
  lines w0.1: -5,0 5,0
  lines w0.2: -5,-2.6 5,-2.6 ; -5,-2.559 -5,0 ; 5,-2.559 5,0 5,-2.559
M-CAD:
  lines w0.1: -5.1,0 -4.4,0 ; -2,0 ccw(c-2,0.45) -2,0.9 -4.4,0.9 ccw(c-4.4,0.45) -4.4,0 ; 2,0 cw(c2,0.45) 2,0.9 4.4,0.9 cw(c4.4,0.45) 4.4,0 ; 5.1,0 4.4,0 ; -4.4,0 ccw(c-4.4,0.45) -3.976,0.6 -2.591,0.6 ccw(c-2.167,0.45) -2.167,0 2.167,0 ccw(c2.167,0.45) 2.591,0.6 3.976,0.6 ccw(c4.4,0.45) 4.4,0
TopBody:
  lines w0.01: -4.675,-2.35 ccw(c-4.4,-2.35) -4.4,-2.625 ccw(c-4.4,-2.35) -4.125,-2.35 -4.125,0 -4.675,0 -4.675,-2.35 ; -3.875,-2.35 ccw(c-3.6,-2.35) -3.6,-2.625 ccw(c-3.6,-2.35) -3.325,-2.35 -3.325,0 -3.875,0 -3.875,-2.35 ; -3.075,-2.35 ccw(c-2.8,-2.35) -2.8,-2.625 ccw(c-2.8,-2.35) -2.525,-2.35 -2.525,0 -3.075,0 -3.075,-2.35 ; -2.275,-2.35 ccw(c-2,-2.35) -2,-2.625 ccw(c-2,-2.35) -1.725,-2.35 -1.725,0 -2.275,0 -2.275,-2.35 ; -1.475,-2.35 ccw(c-1.2,-2.35) -1.2,-2.625 ccw(c-1.2,-2.35) -0.925,-2.35 -0.925,0 -1.475,0 -1.475,-2.35 ; -0.675,-2.35 ccw(c-0.4,-2.35) -0.4,-2.625 ccw(c-0.4,-2.35) -0.125,-2.35 -0.125,0 -0.675,0 -0.675,-2.35 ; 0.125,-2.35 ccw(c0.4,-2.35) 0.4,-2.625 ccw(c0.4,-2.35) 0.675,-2.35 0.675,0 0.125,0 0.125,-2.35 ; 0.925,-2.35 ccw(c1.2,-2.35) 1.2,-2.625 ccw(c1.2,-2.35) 1.475,-2.35 1.475,0 0.925,0 0.925,-2.35 ; 1.725,-2.35 ccw(c2,-2.35) 2,-2.625 ccw(c2,-2.35) 2.275,-2.35 2.275,0 1.725,0 1.725,-2.35 ; 2.525,-2.35 ccw(c2.8,-2.35) 2.8,-2.625 ccw(c2.8,-2.35) 3.075,-2.35 3.075,0 2.525,0 2.525,-2.35 ; 3.325,-2.35 ccw(c3.6,-2.35) 3.6,-2.625 ccw(c3.6,-2.35) 3.875,-2.35 3.875,0 3.325,0 3.325,-2.35 ; 4.125,-2.35 ccw(c4.4,-2.35) 4.4,-2.625 ccw(c4.4,-2.35) 4.675,-2.35 4.675,0 4.125,0 4.125,-2.35
BotBody:
  lines w0.01: -4.675,-2.35 ccw(c-4.4,-2.35) -4.4,-2.625 ccw(c-4.4,-2.35) -4.125,-2.35 -4.125,0 -4.675,0 -4.675,-2.35 ; -3.875,-2.35 ccw(c-3.6,-2.35) -3.6,-2.625 ccw(c-3.6,-2.35) -3.325,-2.35 -3.325,0 -3.875,0 -3.875,-2.35 ; -3.075,-2.35 ccw(c-2.8,-2.35) -2.8,-2.625 ccw(c-2.8,-2.35) -2.525,-2.35 -2.525,0 -3.075,0 -3.075,-2.35 ; -2.275,-2.35 ccw(c-2,-2.35) -2,-2.625 ccw(c-2,-2.35) -1.725,-2.35 -1.725,0 -2.275,0 -2.275,-2.35 ; -1.475,-2.35 ccw(c-1.2,-2.35) -1.2,-2.625 ccw(c-1.2,-2.35) -0.925,-2.35 -0.925,0 -1.475,0 -1.475,-2.35 ; -0.675,-2.35 ccw(c-0.4,-2.35) -0.4,-2.625 ccw(c-0.4,-2.35) -0.125,-2.35 -0.125,0 -0.675,0 -0.675,-2.35 ; 0.125,-2.35 ccw(c0.4,-2.35) 0.4,-2.625 ccw(c0.4,-2.35) 0.675,-2.35 0.675,0 0.125,0 0.125,-2.35 ; 0.925,-2.35 ccw(c1.2,-2.35) 1.2,-2.625 ccw(c1.2,-2.35) 1.475,-2.35 1.475,0 0.925,0 0.925,-2.35 ; 1.725,-2.35 ccw(c2,-2.35) 2,-2.625 ccw(c2,-2.35) 2.275,-2.35 2.275,0 1.725,0 1.725,-2.35 ; 2.525,-2.35 ccw(c2.8,-2.35) 2.8,-2.625 ccw(c2.8,-2.35) 3.075,-2.35 3.075,0 2.525,0 2.525,-2.35 ; 3.325,-2.35 ccw(c3.6,-2.35) 3.6,-2.625 ccw(c3.6,-2.35) 3.875,-2.35 3.875,0 3.325,0 3.325,-2.35 ; 4.125,-2.35 ccw(c4.4,-2.35) 4.4,-2.625 ccw(c4.4,-2.35) 4.675,-2.35 4.675,0 4.125,0 4.125,-2.35
3D body: height 0.5, standoff 0, extent 4.119,-2.631 4.681,0.001
3D body: height 0.5, standoff 0, extent 3.319,-2.631 3.881,0.001
3D body: height 0.5, standoff 0, extent 2.519,-2.631 3.081,0.001
3D body: height 0.5, standoff 0, extent 1.719,-2.631 2.281,0.001
3D body: height 0.5, standoff 0, extent 0.919,-2.631 1.481,0.001
3D body: height 0.5, standoff 0, extent 0.119,-2.631 0.681,0.001
3D body: height 0.5, standoff 0, extent -0.681,-2.631 -0.119,0.001
3D body: height 0.5, standoff 0, extent -1.481,-2.631 -0.919,0.001
3D body: height 0.5, standoff 0, extent -2.281,-2.631 -1.719,0.001
3D body: height 0.5, standoff 0, extent -3.081,-2.631 -2.519,0.001
3D body: height 0.5, standoff 0, extent -3.881,-2.631 -3.319,0.001
3D body: height 0.5, standoff 0, extent -4.681,-2.631 -4.119,0.001
3D body: height 0.5, standoff 0, extent 4.119,-2.631 4.681,0.001
3D body: height 0.5, standoff 0, extent 3.319,-2.631 3.881,0.001
3D body: height 0.5, standoff 0, extent 2.519,-2.631 3.081,0.001
3D body: height 0.5, standoff 0, extent 1.719,-2.631 2.281,0.001
3D body: height 0.5, standoff 0, extent 0.919,-2.631 1.481,0.001
3D body: height 0.5, standoff 0, extent 0.119,-2.631 0.681,0.001
3D body: height 0.5, standoff 0, extent -0.681,-2.631 -0.119,0.001
3D body: height 0.5, standoff 0, extent -1.481,-2.631 -0.919,0.001
3D body: height 0.5, standoff 0, extent -2.281,-2.631 -1.719,0.001
3D body: height 0.5, standoff 0, extent -3.081,-2.631 -2.519,0.001
3D body: height 0.5, standoff 0, extent -3.881,-2.631 -3.319,0.001
3D body: height 0.5, standoff 0, extent -4.681,-2.631 -4.119,0.001

## CC_PCBTouch [mm] "Smd pad 9 x 5 mm"
pads (1):
  round 0.6 hole 0.3: 1(0,0)

## CC_SAMTEC_SEL-115 [mm] "To use with Connector Samtec, SEL serie, One-Piece low profile, 1mm pitch"
pads (34):
  rect 0x0 on Mech2 hole 0.76 unplated: 0(-8.125,-5.27) 0(8.125,-5.27)
  rect 0.64x0.89 on Mech2: 0(-8,0) 0(8,0) 1(-7,0) 2(-6,0) 3(-5,0) 4(-4,0) 5(-3,0) 6(-2,0) 7(-1,0) 8(0,0) 9(1,0) 10(2,0) 11(3,0) 12(4,0) 13(5,0) 14(6,0) 15(7,0)
  rect 0.61x3.56 smd: 1(7,-3.97) 2(6,-3.97) 3(5,-3.97) 4(4,-3.97) 5(3,-3.97) 6(2,-3.97) 7(1,-3.97) 8(0,-3.97) 9(-1,-3.97) 10(-2,-3.97) 11(-3,-3.97) 12(-4,-3.97) 13(-5,-3.97) 14(-6,-3.97) 15(-7,-3.97)
Top Overlay:
  lines w0.2: -8.9,-4.98 -8.9,-5.98 -7.65,-5.98 -7.65,-4.68 -7.8,-4.68 -7.8,-3.28 -7.65,-3.28 -7.65,-1.825 -5.65,-1.825 ; -8.9,-2.98 -8.9,-1.98 -9.125,-1.98 -9.125,-0.58 -7.125,-0.58 ; -6.125,-0.58 -4.125,-0.58 ; -4.65,-1.825 -2.65,-1.825 ; -3.125,-0.58 -1.125,-0.58 ; -1.65,-1.825 1.65,-1.825 ; 1.125,-0.58 3.125,-0.58 ; 2.65,-1.825 4.65,-1.825 ; 4.125,-0.58 6.125,-0.58 ; 5.65,-1.825 7.65,-1.825 7.65,-3.28 7.8,-3.28 7.8,-4.68 7.65,-4.68 7.65,-5.98 8.9,-5.98 8.9,-4.98 ; 7.125,-0.58 9.125,-0.58 9.125,-1.98 8.9,-1.98 8.9,-2.98
TopBody:
  text ".Designator" at -0.8,-1.4 h0.5
TopCourtyard:
  lines w0.05: -0.5,0 0.5,0 ; 0,-0.5 0,0.5 ; -9.4,-6.6 9.4,-6.6 9.4,0.8 -9.4,0.8 -9.4,-6.6
3D body: height 1.27, standoff 0, extent -9.1,-6 9.1,-0.6
3D body: height 0, standoff -0.64, extent -8.51,-5.65 -7.74,-4.89
3D body: height 0, standoff -0.64, extent 7.74,-5.65 8.51,-4.89

## CC_SC2 [mm] "Short Circuit 2 Connections"
height 1
pads (2):
  rect 0.3x0.5 smd paste-2: 1(-0.4,0) 2(0.4,0)
Top Layer:
  region: 0.3,0.249 -0.3,0.249 -0.3,-0.251 0.3,-0.251

## CC_SmdPad-0.7x1.6 [mm] "Smd pad 0.7 x 1.6 mm"
pads (1):
  rect 0.7x1.6 smd: 1(0,0)
TopBody:
  lines w0.1: -0.375,-0.825 0.375,-0.825 0.375,0.825 -0.375,0.825 -0.375,-0.825
TopCourtyard:
  lines w0.05: -0.5,0 0,0 ; 0,-0.5 0,0 ; 0,0.5 0,0 ; 0.5,0 0,0 ; -0.575,-1.025 0.575,-1.025 0.575,1.025 -0.575,1.025 -0.575,-1.025
3D body: height 1, standoff 0, extent -0.375,-0.825 0.375,0.825

## CC_SmdPad-2.5x2.5 [mm] "Smd pad 2.5 x 2.5 mm"
pads (1):
  rect 2.5x2.5 smd: 1(0,0)
TopBody:
  lines w0.1: -1.3,-1.3 1.3,-1.3 1.3,1.3 -1.3,1.3 -1.3,-1.3
TopCourtyard:
  lines w0.05: -0.5,0 0,0 ; 0,-0.5 0,0 ; 0,0.5 0,0 ; 0.5,0 0,0 ; -1.5,-1.5 1.5,-1.5 1.5,1.5 -1.5,1.5 -1.5,-1.5
3D body: height 1, standoff 0, extent -1.3,-1.3 1.3,1.3

## CC_SmdPad-9x5 [mm] "Smd pad 9 x 5 mm"
pads (1):
  rect 9x5 smd: 1(0,0)
TopBody:
  lines w0.1: -4.7,-2.7 4.7,-2.7 4.7,2.7 -4.7,2.7 -4.7,-2.7
TopCourtyard:
  lines w0.05: -0.5,0 0,0 ; 0,-0.5 0,0 ; 0,0.5 0,0 ; 0.5,0 0,0 ; -4.95,-2.95 -4.95,2.95 4.95,2.95 4.95,-2.95 -4.95,-2.95
3D body: height 1, standoff 0, extent -4.7,-2.7 4.7,2.7